# Altium schematic symbol library SM74611.Schlib: 1 symbol
Pins are listed as number, name and electrical type; pins without a type are passive.

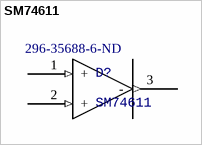
[diagram p0: symbol SM74611]

## SM74611
designator D?  Supplier Part Number 1: 296-35688-6-ND
PV Diode; Manufacturer: Texas Instruments; Manufacturer Part Number: SM74611KTTR; Description: DIODE GEN PURP 30V 15A DDPAK; Forward Current: 15A; Peak Reverse Current: 300nA; Max Repetitive Reverse Voltage (Vrrm): 28V; Element Configuration: Single; Number of Outputs: 1; Operating Supply Current: 0pA; Max Supply Voltage: 30V; Min Supply Voltage: 100mV; Max Power Dissipation: 575mW; Supplier 1: Digi-Key; Stock 1: 19774; Pricing 1: 1=3.6, 10=3.236, 100=2.6512 (USD); Mount: Surface Mount; Case/Package: TO-263-3; Number of Pins: 3; Weight: 0.068654oz; Min Operating Temperature: -40°C; Max Operating Temperature: 125°C; Package Quantity: 1; Packaging: Tape and Reel; Output Current: 15A; Average Rectified Current: 15A; Number of Drivers: 1; Quiescent Current: 0pA; Max Reverse Voltage (DC): 30V; Radiation Hardening: No; Lead Free: Contains Lead; REACH SVHC: No SVHC; ComponentLink1URL: http://www.ti.com/lit/ml/mpsf052b/mpsf052b.pdf?keyMatch=ktt%20package%20drawing&tisearch=Search-EN-Everything&src-supplier=Digi-Key; ComponentLink1Description: http://www.ti.com/lit/ml/mpsf052b/mpsf052b.pdf?keyMatch=ktt%20package%20drawing&tisearch=Search-EN-Everything&src-supplier=Digi-Key
footprint TO254P1435X464-3N
pins: 1 + (in), 2 + (in), 3 - (out)